# Altium integrated library 30pin0.7pitch_FFC.IntLib: 1 symbol
Pins are listed as number, name and electrical type; pins without a type are passive.

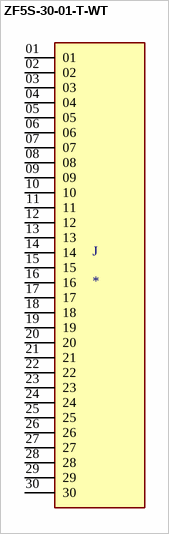
[diagram p0: symbol ZF5S-30-01-T-WT]

## ZF5S-30-01-T-WT
designator J
ZERO INSERTION FORCE .5MM ASSEMB; MF: Samtec Inc.; MP: ZF5S-30-01-T-WT-TR; Availability: Unavailable; Toby_UK-Purchase-URL: https://snapeda.com/shop?store=Toby+UK&id=4799814; SnapEDA_Link: https://www.snapeda.com/parts/ZF5S-30-01-T-WT-TR/Samtec/view-part/4799814/?ref=snap; Value: *; Price: None; Package: None
footprint SAMTEC_ZF5S-30-01-T-WT
pins: 01, 02, 03, 04, 05, 06, 07, 08, 09, 10, 11, 12, 13, 14, 15, 16, 17, 18, 19, 20, 21, 22, 23, 24, 25, 26, 27, 28, 29, 30